# EAGLE library part 7490140141 (library WE-LAN)
WE-LAN LAN Transformer Characteristics Suitable for industrial temperatures from –40 °C up to +125 °C Different version available from 1.5 kV isolation to 6 kV. HPLE version Additional CMC for higher attenuation Non PoE, PoE and PoE++ up to 2 A PoE up to 150 W and speeds up to 1 Gbit/s Available in SMT Compliant with standards: IEEE 802.3u, IEEE 802.3ab, IEEE 802.3af, IEEE 802.3at and IEEE 802.3bt UL Recognized Applications Compatible to Industrial Ethernet systems like EtherCAT or Profinet Compliant with most IC’s for Ethernet applications such as Microchip, Texas Instruments, Broadcom, Linear Technology Router, switches, sensors, robotics, automation, IP cameras, IoT applications Details see: www.we-online.com/en/components/products/WE-LAN Created by Ella Wu, 2020-07-08 2020 (C) Würth Elektronik
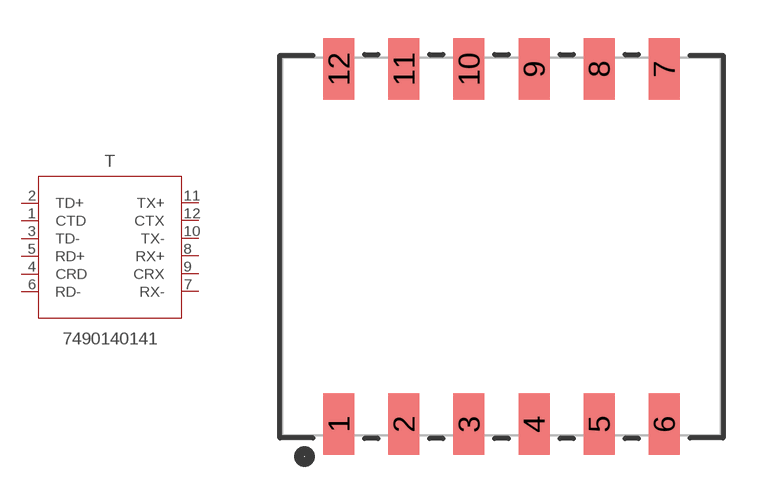
[diagram p13: symbol with the pads of 7490140141; footprint 7490140141]

Designator prefix T

## 7490140141 (DATA-RATE: 10/100BASE-T; DATASHEET: https://www.we-online.com/redexpert/spec/7490140141?ae; HPLE: No; IMPROVED-CMRR: No; L: 350 uH; MOUNT: SMT; OPERATING-TEMPERATURE: -40 °C up to +85 °C; PART-NUMBER: 7490140141; POE: PoE (up to 350 mA); PORTS: 1; VALUE: 7490140141; VT: 4000 V (RMS))  [7490140141]
1  CTD  pas
2  TD+  pas
3  TD-  pas
4  CRD  pas
5  RD+  pas
6  RD-  pas
7  RX-  pas
8  RX+  pas
9  CRX  pas
10  TX-  pas
11  TX+  pas
12  CTX  pas

## Footprint 7490140141 (pad centres in mm)
WE-LAN LAN Transformer 10/100BASE-T, 1Port, SMT
smd 1.21 x 2.4: 1 -6.35,-6.935; 2 -3.81,-6.935; 3 -1.27,-6.935; 4 1.27,-6.935; 5 3.81,-6.935; 6 6.35,-6.935; 7 6.35,6.935; 8 3.81,6.935; 9 1.27,6.935; 10 -1.27,6.935; 11 -3.81,6.935; 12 -6.35,6.935